# EAGLE library part AL8862 (library U-LED)
AL8862 [DIODES,AL8862SP-13] CURR DRIVER SO8EP AL8862["SP":"SO-8EP"]["-13":"Tape/Reel"]
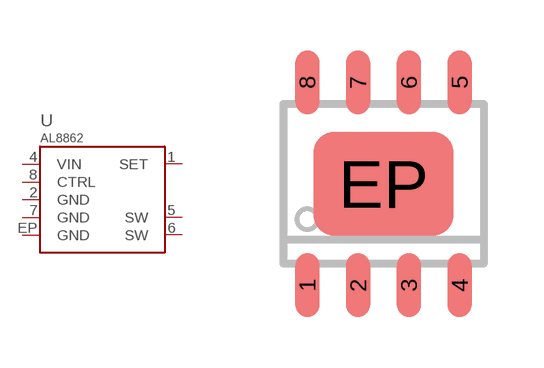
[diagram p0: symbol with the pads of SOIC8EP; footprint SOIC8EP]

Designator prefix U

## AL8862SP-13  [SOIC8EP]
1  SET
2  GND
4  VIN
5  SW
6  SW
7  GND
8  CTRL
EP  GND

## Footprint SOIC8EP (pad centres in mm)
SO-8EP standard small outline package with narrow body and exposed pad
smd 0.6 x 1.6: 1 -1.905,-2.54; 2 -0.635,-2.54; 3 0.635,-2.54; 4 1.905,-2.54; 5 1.905,2.54; 6 0.635,2.54; 7 -0.635,2.54; 8 -1.905,2.54
smd 3.5 x 2.6: EP 0,0